# EAGLE library part DCDC (library DCDC)
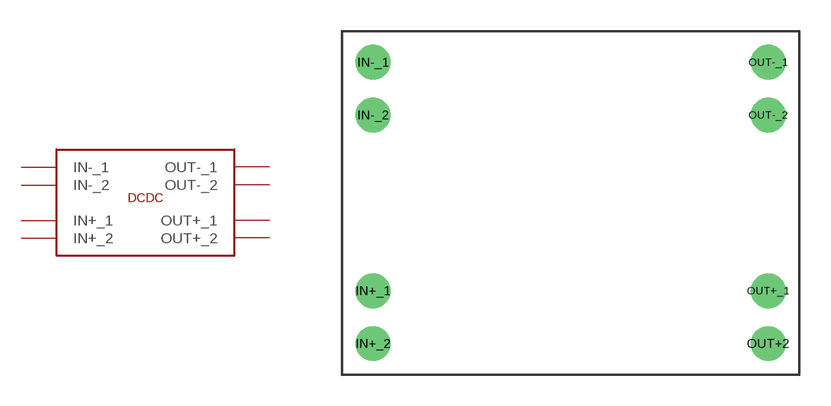
[diagram p0: symbol with the pads of DCDC; footprint DCDC]

Designator prefix -

## DCDC  [DCDC]
IN+_1  IN+_1
IN+_2  IN+_2
IN-_1  IN-_1
IN-_2  IN-_2
OUT+2  OUT+_1
OUT+_1  OUT+_2
OUT-_1  OUT-_1
OUT-_2  OUT-_2

## Footprint DCDC (pad centres in mm)
drill 0.8 pad 1.676: IN+_1 0,2.54; IN+_2 0,0; IN-_1 0,13.54; IN-_2 0,11; OUT+2 19,0; OUT+_1 19,2.54; OUT-_1 19,13.54; OUT-_2 19,11